# EAGLE library part FT2232H (library prj-hdmi)
FT2232H USB2.0 High speed dual Serial/FIFO controller 64 pin device
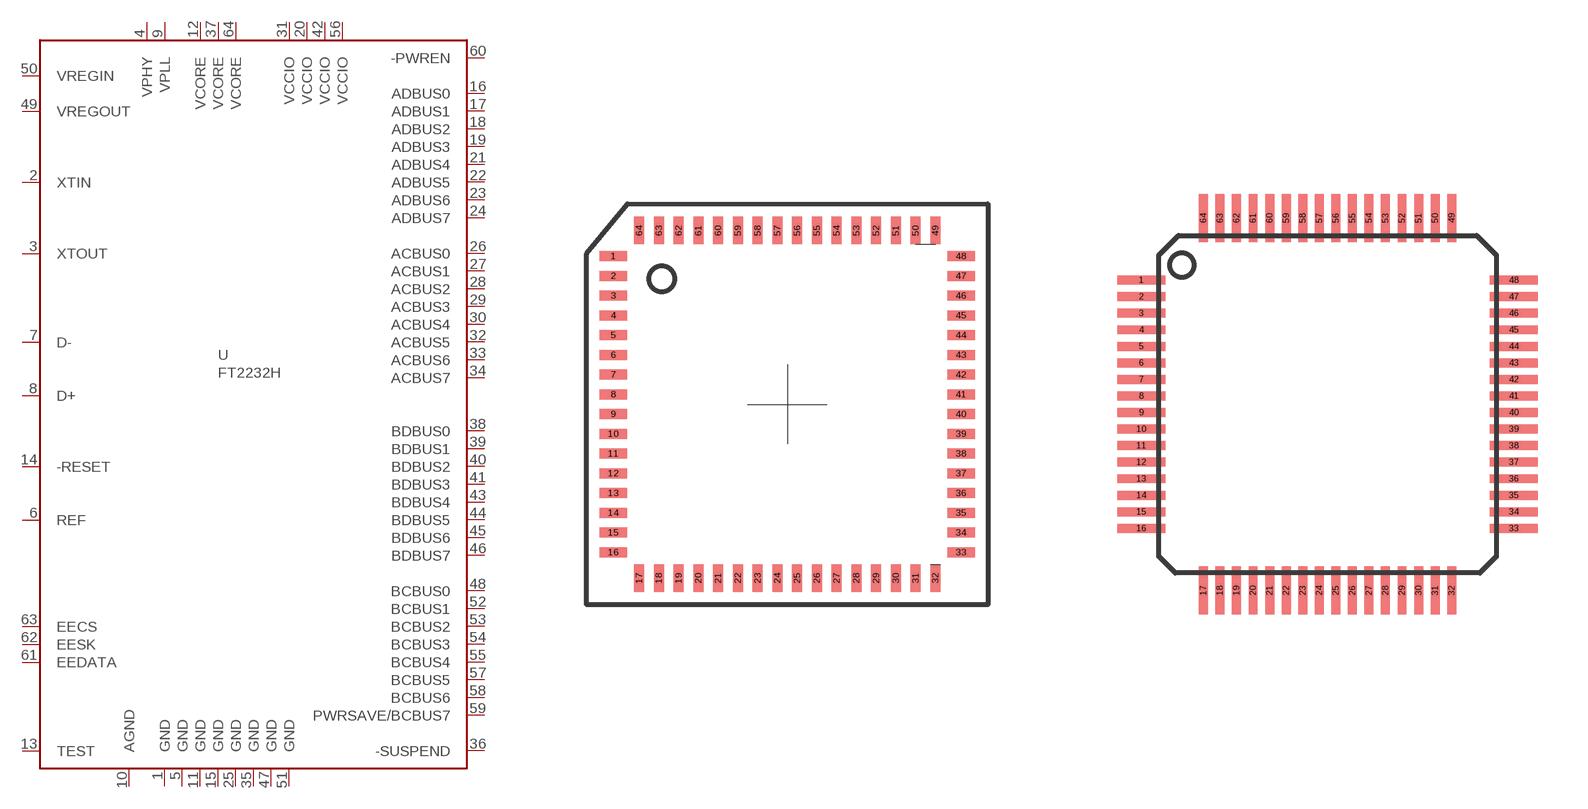
[diagram p5: symbol with the pads of QFN64; footprints QFN64, LQFP64]

Designator prefix -

## FT2232HQ  [QFN64]
1  GND  pwr
2  XTIN  in
3  XTOUT  out
4  VPHY  pwr
5  GND  pwr
6  REF  in
7  D-
8  D+
9  VPLL  pwr
10  AGND  pwr
11  GND  pwr
12  VCORE  pwr
13  TEST  in
14  -RESET  in
15  GND  pwr
16  ADBUS0
17  ADBUS1
18  ADBUS2
19  ADBUS3
20  VCCIO  pwr
21  ADBUS4
22  ADBUS5
23  ADBUS6
24  ADBUS7
25  GND  pwr
26  ACBUS0
27  ACBUS1
28  ACBUS2
29  ACBUS3
30  ACBUS4
31  VCCIO  pwr
32  ACBUS5
33  ACBUS6
34  ACBUS7
35  GND  pwr
36  -SUSPEND  out
37  VCORE  pwr
38  BDBUS0
39  BDBUS1
40  BDBUS2
41  BDBUS3
42  VCCIO  pwr
43  BDBUS4
44  BDBUS5
45  BDBUS6
46  BDBUS7
47  GND  pwr
48  BCBUS0
49  VREGOUT  out
50  VREGIN  in
51  GND  pwr
52  BCBUS1
53  BCBUS2
54  BCBUS3
55  BCBUS4
56  VCCIO  pwr
57  BCBUS5
58  BCBUS6
59  PWRSAVE/BCBUS7
60  -PWREN  out
61  EEDATA  in
62  EESK  out
63  EECS  out
64  VCORE  pwr

## FT2232HL  [LQFP64]
Pads as for QFN64

## Footprint QFN64 (pad centres in mm)
64 pin Quad Flat No Lead Package
smd 0.7 x 0.25: 1 -4.4,3.75; 2 -4.4,3.25; 3 -4.4,2.75; 4 -4.4,2.25; 5 -4.4,1.75; 6 -4.4,1.25; 7 -4.4,0.75; 8 -4.4,0.25; 9 -4.4,-0.25; 10 -4.4,-0.75; 11 -4.4,-1.25; 12 -4.4,-1.75; 13 -4.4,-2.25; 14 -4.4,-2.75; 15 -4.4,-3.25; 16 -4.4,-3.75; 33 4.4,-3.75; 34 4.4,-3.25; 35 4.4,-2.75; 36 4.4,-2.25; 37 4.4,-1.75; 38 4.4,-1.25; 39 4.4,-0.75; 40 4.4,-0.25; 41 4.4,0.25; 42 4.4,0.75; 43 4.4,1.25; 44 4.4,1.75; 45 4.4,2.25; 46 4.4,2.75; 47 4.4,3.25; 48 4.4,3.75
smd 0.25 x 0.7: 17 -3.75,-4.4; 18 -3.25,-4.4; 19 -2.75,-4.4; 20 -2.25,-4.4; 21 -1.75,-4.4; 22 -1.25,-4.4; 23 -0.75,-4.4; 24 -0.25,-4.4; 25 0.25,-4.4; 26 0.75,-4.4; 27 1.25,-4.4; 28 1.75,-4.4; 29 2.25,-4.4; 30 2.75,-4.4; 31 3.25,-4.4; 32 3.75,-4.4; 49 3.75,4.4; 50 3.25,4.4; 51 2.75,4.4; 52 2.25,4.4; 53 1.75,4.4; 54 1.25,4.4; 55 0.75,4.4; 56 0.25,4.4; 57 -0.25,4.4; 58 -0.75,4.4; 59 -1.25,4.4; 60 -1.75,4.4; 61 -2.25,4.4; 62 -2.75,4.4; 63 -3.25,4.4; 64 -3.75,4.4

## Footprint LQFP64 (pad centres in mm)
LQFP64 Richard Myrick T. Arellaga March2010
smd 1.45 x 0.27: 1 -5.625,3.75; 2 -5.625,3.25; 3 -5.625,2.75; 4 -5.625,2.25; 5 -5.625,1.75; 6 -5.625,1.25; 7 -5.625,0.75; 8 -5.625,0.25; 9 -5.625,-0.25; 10 -5.625,-0.75; 11 -5.625,-1.25; 12 -5.625,-1.75; 13 -5.625,-2.25; 14 -5.625,-2.75; 15 -5.625,-3.25; 16 -5.625,-3.75; 33 5.625,-3.75; 34 5.625,-3.25; 35 5.625,-2.75; 36 5.625,-2.25; 37 5.625,-1.75; 38 5.625,-1.25; 39 5.625,-0.75; 40 5.625,-0.25; 41 5.625,0.25; 42 5.625,0.75; 43 5.625,1.25; 44 5.625,1.75; 45 5.625,2.25; 46 5.625,2.75; 47 5.625,3.25; 48 5.625,3.75
smd 0.27 x 1.45: 17 -3.75,-5.625; 18 -3.25,-5.625; 19 -2.75,-5.625; 20 -2.25,-5.625; 21 -1.75,-5.625; 22 -1.25,-5.625; 23 -0.75,-5.625; 24 -0.25,-5.625; 25 0.25,-5.625; 26 0.75,-5.625; 27 1.25,-5.625; 28 1.75,-5.625; 29 2.25,-5.625; 30 2.75,-5.625; 31 3.25,-5.625; 32 3.75,-5.625; 49 3.75,5.625; 50 3.25,5.625; 51 2.75,5.625; 52 2.25,5.625; 53 1.75,5.625; 54 1.25,5.625; 55 0.75,5.625; 56 0.25,5.625; 57 -0.25,5.625; 58 -0.75,5.625; 59 -1.25,5.625; 60 -1.75,5.625; 61 -2.25,5.625; 62 -2.75,5.625; 63 -3.25,5.625; 64 -3.75,5.625